# Altium footprint library Wurth_1050.PcbLib: 1 footprints
Each footprint in its own frame and in the unit in brackets; x right, y up, seen from the top. Pads: shape width x height; smd on the part's side, far side on the other; paste and mask are expansions set on the pad; w line width, h text height; cw(c..) or ccw(c..) is an arc to the next point about the centre after c.
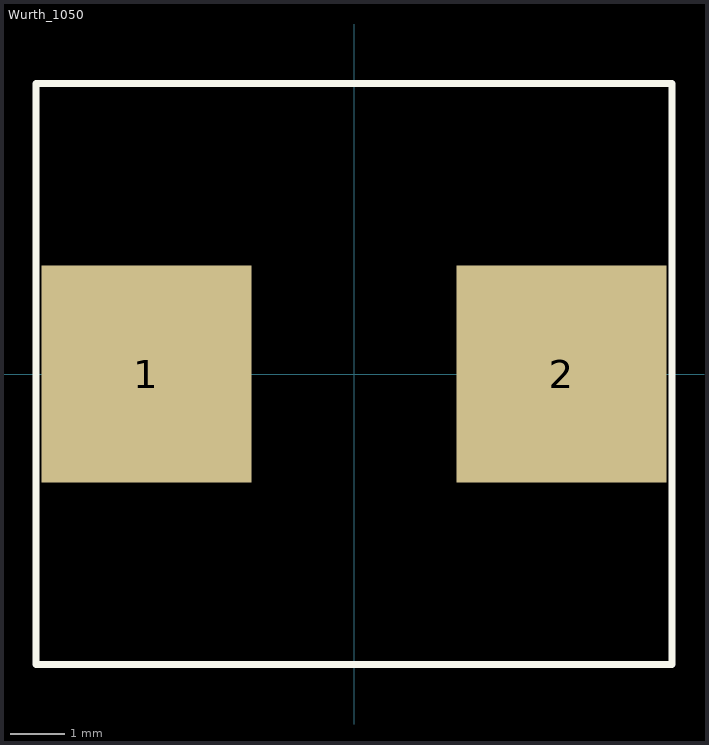
[diagram p0: the footprint, top view; thin cyan lines are the x and y axes]

## Wurth_1050 [mil]
pads (2):
  rect 152x157 smd: 1(-150,0) 2(150,0)
Top Overlay:
  lines w5: -230,-210 230,-210 230,210 -230,210 -230,-210
3D body: height 133.86, standoff -63, extent -216.54,-200.78 216.53,200.79